# Altium footprint library myComponents.PcbLib: 20 footprints (part 1 of 2)
Each footprint in its own frame and in the unit in brackets; x right, y up, seen from the top. Pads: shape width x height; smd on the part's side, far side on the other; paste and mask are expansions set on the pad; w line width, h text height; cw(c..) or ccw(c..) is an arc to the next point about the centre after c.
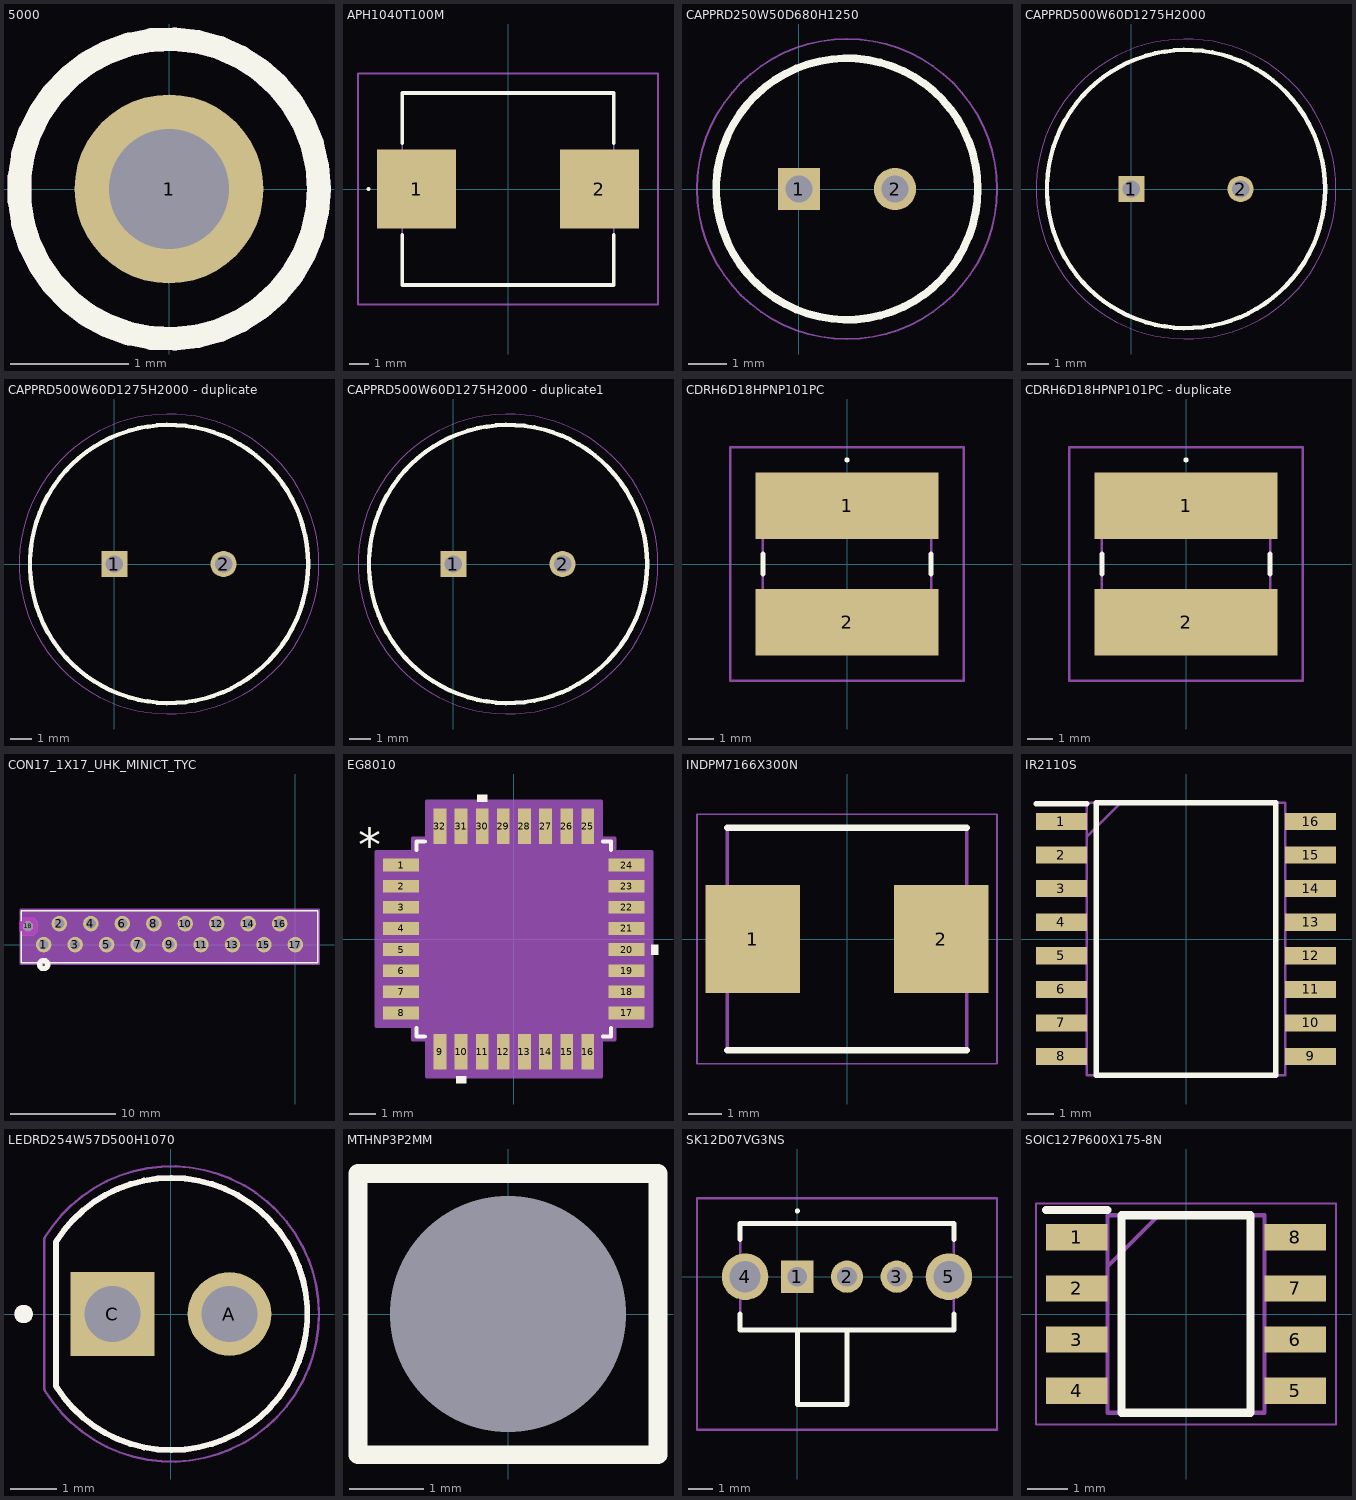
[diagram p0: the footprints below, top view; thin cyan lines are the x and y axes]

## 5000 [mm]
pads (1):
  round 1.6 hole 1.02: 1(0,0)
Top Overlay:
  circle w0.2: c0,0 r1.27
Mechanical 13:
  circle w0.2: c0,0 r1.27
  circle w0.2: c0,0 r1.27
3D body "5000.stp": height 5, standoff -2.62, extent -1.261,-1.27 1.261,1.27

## APH1040T100M [mm]
pads (2):
  rect 4.1x4.1 smd: 1(-4.75,0) 2(4.75,0)
Top Overlay:
  lines w0.1: -7.3,0 ccw(c-7.25,0) -7.2,0 ccw(c-7.25,0) -7.3,0
  lines w0.2: -5.5,-2.4 -5.5,-5 5.5,-5 5.5,-2.4 ; -5.5,2.4 -5.5,5 5.5,5 5.5,2.4
Mechanical 13:
  lines w0.1: -5.5,-5 -5.5,5 5.5,5 5.5,-5 -5.5,-5
Mechanical 15:
  lines w0.1: -7.8,-6 -7.8,6 7.8,6 7.8,-6 -7.8,-6
3D body "APH1040T100M.stp": height 4.1, standoff 0, extent -6.39,-5 6.39,5

## CAPPRD250W50D680H1250 [mm]
pads (2):
  rect 1.1x1.1 hole 0.7: 1(0,0)
  round 1.1 hole 0.7: 2(2.5,0)
Top Overlay:
  circle w0.2: c1.25,0 r3.4
Mechanical 13:
  circle w0.1: c1.25,0 r3.4
Mechanical 15:
  circle w0.05: c1.25,0 r3.9
3D body "MAL203856101E3.stp": height 12.5, standoff -10, extent -2.138,-3.397 4.65,3.397

## CAPPRD500W60D1275H2000 [mm]
pads (2):
  rect 1.2x1.2 hole 0.8: 1(0,0)
  round 1.2 hole 0.8: 2(5,0)
Top Overlay:
  circle w0.2: c2.5,0 r6.375
Mechanical 13:
  circle w0.1: c2.5,0 r6.375
Mechanical 15:
  circle w0.05: c2.5,0 r6.875
3D body "UPW0J222MHD.stp": height 20, standoff -10, extent -3.988,-6.497 9,6.497

## CAPPRD500W60D1275H2000 - duplicate [mm]
pads (2):
  rect 1.2x1.2 hole 0.8: 1(0,0)
  round 1.2 hole 0.8: 2(5,0)
Top Overlay:
  circle w0.2: c2.5,0 r6.375
Mechanical 13:
  circle w0.1: c2.5,0 r6.375
Mechanical 15:
  circle w0.05: c2.5,0 r6.875
3D body "UPW0J222MHD.stp": height 20, standoff -10, extent -3.988,-6.497 9,6.497

## CAPPRD500W60D1275H2000 - duplicate1 [mm]
pads (2):
  rect 1.2x1.2 hole 0.8: 1(0,0)
  round 1.2 hole 0.8: 2(5,0)
Top Overlay:
  circle w0.2: c2.5,0 r6.375
Mechanical 13:
  circle w0.1: c2.5,0 r6.375
Mechanical 15:
  circle w0.05: c2.5,0 r6.875
3D body "UPW0J222MHD.stp": height 20, standoff -10, extent -3.988,-6.497 9,6.497

## CDRH6D18HPNP101PC [mm]
pads (2):
  rect 7.3x2.65 smd: 1(0,2.325) 2(0,-2.325)
Top Overlay:
  lines w0.1: 0,4.1 ccw(c0,4.15) 0,4.2 ; 0,4.1 cw(c0,4.15) 0,4.2 ; 0,4.1 ccw(c0,4.15) 0,4.2
  lines w0.2: -3.35,-0.4 -3.35,0.4 ; 3.35,-0.4 3.35,0.4
Mechanical 13:
  lines w0.1: -3.35,-3.35 3.35,-3.35 3.35,3.35 -3.35,3.35 -3.35,-3.35
Mechanical 15:
  lines w0.1: -4.65,-4.65 4.65,-4.65 4.65,4.65 -4.65,4.65 -4.65,-4.65

## CDRH6D18HPNP101PC - duplicate [mm]
pads (2):
  rect 7.3x2.65 smd: 1(0,2.325) 2(0,-2.325)
Top Overlay:
  lines w0.1: 0,4.1 ccw(c0,4.15) 0,4.2 ; 0,4.1 cw(c0,4.15) 0,4.2 ; 0,4.1 ccw(c0,4.15) 0,4.2
  lines w0.2: -3.35,-0.4 -3.35,0.4 ; 3.35,-0.4 3.35,0.4
Mechanical 13:
  lines w0.1: -3.35,-3.35 -3.35,3.35 3.35,3.35 3.35,-3.35 -3.35,-3.35
Mechanical 15:
  lines w0.1: -4.65,-4.65 -4.65,4.65 4.65,4.65 4.65,-4.65 -4.65,-4.65

## CON17_1X17_UHK_MINICT_TYC [mil]
pads (18):
  round 58 hole 38 paste-99999 mask-29: 1(-944.88,0) 2(-885.83,78.74) 3(-826.77,0) 4(-767.72,78.74) 5(-708.66,0) 6(-649.61,78.74) 7(-590.55,0) 8(-531.5,78.74) 9(-472.44,0) 10(-413.39,78.74) 11(-354.33,0) 12(-295.28,78.74) 13(-236.22,0) 14(-177.17,78.74) 15(-118.11,0) 16(-59.06,78.74) 17(0,0)
  round 38 hole 38 unplated paste-99999 mask+0: 18(-1003.44,69)
Top Overlay:
  circle w20: c-944.88,-75 r15
  lines w6: -1028.44,48.87 -1028.44,-68 83.56,-68 83.56,127 -1028.44,127 -1028.44,89.13
  text ".Designator" at -609.94,-25 h50
Bottom Overlay:
  circle w20: c-944.88,-75 r15
Keep-Out Layer:
  region: -1022.44,35 -1037.44,50 -1037.44,88 -1022.44,103 -984.44,103 -969.44,88 -969.44,50 -984.44,35
Mechanical 13:
  circle w1: c-944.88,10 r7
  lines w1: -1023.44,-63 78.56,-63 78.56,122 -1023.44,122 -1023.44,-63
  text ".Designator" at -609.94,-25 h50
Mechanical 15:
  region: 88.56,132 -1033.44,132 -1033.44,-73 88.56,-73
  lines w6: -1033.44,-73 -1033.44,132 88.56,132 88.56,-73 -1033.44,-73

## EG8010 [mm]
pads (32):
  rect 1.36x0.482 smd paste+0 mask+0: 1(-4.267,2.8) 2(-4.267,2) 3(-4.267,1.2) 4(-4.267,0.4) 5(-4.267,-0.4) 6(-4.267,-1.2) 7(-4.267,-2) 8(-4.267,-2.8) 17(4.267,-2.8) 18(4.267,-2) 19(4.267,-1.2) 20(4.267,-0.4) 21(4.267,0.4) 22(4.267,1.2) 23(4.267,2) 24(4.267,2.8)
  rect 0.482x1.36 smd paste+0 mask+0: 9(-2.8,-4.267) 10(-2,-4.267) 11(-1.2,-4.267) 12(-0.4,-4.267) 13(0.4,-4.267) 14(1.2,-4.267) 15(2,-4.267) 16(2.8,-4.267) 25(2.8,4.267) 26(2,4.267) 27(1.2,4.267) 28(0.4,4.267) 29(-0.4,4.267) 30(-1.2,4.267) 31(-2,4.267) 32(-2.8,4.267)
Top Overlay:
  region: -1.81,-5.201 -2.191,-5.201 -2.191,-5.455 -1.81,-5.455
  region: 5.201,-0.209 5.455,-0.209 5.455,-0.59 5.201,-0.59
  region: -1.01,5.201 -1.391,5.201 -1.391,5.455 -1.01,5.455
  lines w0.152: -3.683,-3.374 -3.683,-3.683 -3.374,-3.683 ; -3.683,3.374 -3.683,3.683 -3.374,3.683 ; 3.374,-3.683 3.683,-3.683 3.683,-3.374 ; 3.374,3.683 3.683,3.683 3.683,3.374
  text "*" at -5.9,2.946 h1.27
  text ".Designator" at -3.492,-0.635 h1.27
Mechanical 13:
  lines w0.025: -3.556,2.286 -2.286,3.556 ; -4.597,-3.016 -4.597,-2.584 -3.556,-2.584 -3.556,-3.016 -4.597,-3.016 ; -4.597,-2.216 -4.597,-1.784 -3.556,-1.784 -3.556,-2.216 -4.597,-2.216 ; -4.597,-1.416 -4.597,-0.984 -3.556,-0.984 -3.556,-1.416 -4.597,-1.416 ; -4.597,-0.616 -4.597,-0.184 -3.556,-0.184 -3.556,-0.616 -4.597,-0.616 ; -4.597,0.184 -4.597,0.616 -3.556,0.616 -3.556,0.184 -4.597,0.184 ; -4.597,0.984 -4.597,1.416 -3.556,1.416 -3.556,0.984 -4.597,0.984 ; -4.597,1.784 -4.597,2.216 -3.556,2.216 -3.556,1.784 -4.597,1.784 ; -4.597,2.584 -4.597,3.016 -3.556,3.016 -3.556,2.584 -4.597,2.584 ; -3.556,-3.556 -3.556,3.556 3.556,3.556 3.556,-3.556 -3.556,-3.556 ; -3.016,-4.597 -3.016,-3.556 -2.584,-3.556 -2.584,-4.597 -3.016,-4.597 ; -3.016,3.556 -2.584,3.556 -2.584,4.597 -3.016,4.597 -3.016,3.556 ; -2.216,-4.597 -2.216,-3.556 -1.784,-3.556 -1.784,-4.597 -2.216,-4.597 ; -2.216,3.556 -1.784,3.556 -1.784,4.597 -2.216,4.597 -2.216,3.556 ; -1.416,-4.597 -1.416,-3.556 -0.984,-3.556 -0.984,-4.597 -1.416,-4.597 ; -1.416,3.556 -0.984,3.556 -0.984,4.597 -1.416,4.597 -1.416,3.556 ; -0.616,-4.597 -0.616,-3.556 -0.184,-3.556 -0.184,-4.597 -0.616,-4.597 ; -0.616,3.556 -0.184,3.556 -0.184,4.597 -0.616,4.597 -0.616,3.556 ; 0.184,-4.597 0.184,-3.556 0.616,-3.556 0.616,-4.597 0.184,-4.597 ; 0.184,3.556 0.616,3.556 0.616,4.597 0.184,4.597 0.184,3.556 ; 0.984,-4.597 0.984,-3.556 1.416,-3.556 1.416,-4.597 0.984,-4.597 ; 0.984,3.556 1.416,3.556 1.416,4.597 0.984,4.597 0.984,3.556 ; 1.784,-4.597 1.784,-3.556 2.216,-3.556 2.216,-4.597 1.784,-4.597 ; 1.784,3.556 2.216,3.556 2.216,4.597 1.784,4.597 1.784,3.556 ; 2.584,-4.597 2.584,-3.556 3.016,-3.556 3.016,-4.597 2.584,-4.597 ; 2.584,3.556 3.016,3.556 3.016,4.597 2.584,4.597 2.584,3.556 ; 3.556,-3.016 3.556,-2.584 4.597,-2.584 4.597,-3.016 3.556,-3.016 ; 3.556,-2.216 3.556,-1.784 4.597,-1.784 4.597,-2.216 3.556,-2.216 ; 3.556,-1.416 3.556,-0.984 4.597,-0.984 4.597,-1.416 3.556,-1.416 ; 3.556,-0.616 3.556,-0.184 4.597,-0.184 4.597,-0.616 3.556,-0.616 ; 3.556,0.184 3.556,0.616 4.597,0.616 4.597,0.184 3.556,0.184 ; 3.556,0.984 3.556,1.416 4.597,1.416 4.597,0.984 3.556,0.984 ; 3.556,1.784 3.556,2.216 4.597,2.216 4.597,1.784 3.556,1.784 ; 3.556,2.584 3.556,3.016 4.597,3.016 4.597,2.584 3.556,2.584
  text ".Designator" at -3.492,-0.635 h1.27
  text "*" at -3.492,2.565 h1.27
Mechanical 15:
  region: -3.295,-3.81 -3.81,-3.81 -3.81,-3.295 -5.201,-3.295 -5.201,3.295 -3.81,3.295 -3.81,3.81 -3.295,3.81 -3.295,5.201 3.295,5.201 3.295,3.81 3.81,3.81 3.81,3.295 5.201,3.295 5.201,-3.295 3.81,-3.295 3.81,-3.81 3.295,-3.81 3.295,-5.201 -3.295,-5.201
  lines w0.152: -5.201,-3.295 -3.81,-3.295 -3.81,-3.81 -3.295,-3.81 -3.295,-5.201 3.295,-5.201 3.295,-3.81 3.81,-3.81 3.81,-3.295 5.201,-3.295 5.201,3.295 3.81,3.295 3.81,3.81 3.295,3.81 3.295,5.201 -3.295,5.201 -3.295,3.81 -3.81,3.81 -3.81,3.295 -5.201,3.295 -5.201,-3.295
3D body "LQFP32_EGM.step": height 1.6, standoff 0, extent -4.597,-4.597 4.597,4.597

## INDPM7166X300N [mm]
pads (2):
  rect 2.8x3.2 smd: 1(-2.8,0) 2(2.8,0)
Top Overlay:
  lines w0.2: -3.55,-3.3 3.55,-3.3 ; -3.55,3.3 3.55,3.3
Mechanical 13:
  lines w0.1: -3.55,-3.3 -3.55,3.3 3.55,3.3 3.55,-3.3 -3.55,-3.3
Mechanical 15:
  lines w0.05: -4.45,-3.7 -4.45,3.7 4.45,3.7 4.45,-3.7 -4.45,-3.7
3D body "SRP6530A-R47M.stp": height 3, standoff 0, extent -3.55,-3.3 3.55,3.3

## IR2110S [mm]
pads (16):
  rect 1.925x0.65 smd: 1(-4.712,4.445) 2(-4.712,3.175) 3(-4.712,1.905) 4(-4.712,0.635) 5(-4.712,-0.635) 6(-4.712,-1.905) 7(-4.712,-3.175) 8(-4.712,-4.445) 9(4.712,-4.445) 10(4.712,-3.175) 11(4.712,-1.905) 12(4.712,-0.635) 13(4.712,0.635) 14(4.712,1.905) 15(4.712,3.175) 16(4.712,4.445)
Top Overlay:
  lines w0.2: -5.675,5.12 -3.75,5.12 ; -3.4,-5.15 -3.4,5.15 3.4,5.15 3.4,-5.15 -3.4,-5.15
Mechanical 15:
  lines w0.1: -3.75,3.88 -2.48,5.15 ; -3.75,-5.15 -3.75,5.15 3.75,5.15 3.75,-5.15 -3.75,-5.15

## LEDRD254W57D500H1070 [mm]
height 10.7
pads (2):
  round 1.815 hole 1.21: A(1.27,0)
  rect 1.815x1.815 / inner round 1.815 / far side rect 1.815x1.815 hole 1.21: C(-1.27,0)
Top Overlay:
  circle w0.2: c-3.2,0 r0.1
  lines w0.127: -2.5,-1.566 ccw(c0.006,0) -2.5,1.566 -2.5,-1.566
Mechanical 13:
  circle w0.2: c-3.2,0 r0.1
  lines w0.127: -2.5,-1.566 ccw(c0.006,0) -2.5,1.566 -2.5,-1.566
Mechanical 15:
  lines w0.05: -2.75,-1.64 -2.75,1.64 ; -2.743,-1.652 ccw(c0.007,0) -2.743,1.652
3D body "step_temp.STEP": height 9.1, standoff -17.8, extent -2.6,-2.95 2.95,2.95

## MTHNP3P2MM [mm] "mountinh hole non plated 3.2mm"
pads (1):
  round 1 hole 3.2: ""(0,0)
Top Overlay:
  lines w0.254: -2.032,-1.905 2.032,-1.905 2.032,1.905 -2.032,1.905 -2.032,0.254 -2.032,-1.905

## SK12D07VG3NS [mm]
pads (5):
  rect 1.3x1.3 hole 0.8: 1(0,0)
  round 1.3 hole 0.8: 2(2,0) 3(4,0)
  round 1.875 hole 1.25: 4(-2.1,0) 5(6.1,0)
Top Overlay:
  lines w0.1: 0,2.6 ccw(c0,2.65) 0,2.7 ccw(c0,2.65) 0,2.6
  lines w0.2: -2.3,-1.5 -2.3,-2.15 6.3,-2.15 6.3,-1.5 ; -2.3,1.5 -2.3,2.15 6.3,2.15 6.3,1.5 ; 0,-2.15 0,-5.15 2,-5.15 2,-2.15
Mechanical 13:
  lines w0.1: 0,-2.15 0,-5.15 2,-5.15 2,-2.15 ; -2.3,-2.15 -2.3,2.15 6.3,2.15 6.3,-2.15 -2.3,-2.15
Mechanical 15:
  lines w0.1: -4.037,-6.15 -4.037,3.15 8.037,3.15 8.037,-6.15 -4.037,-6.15
3D body "SK12D07VG3NS.stp": height 4.66, standoff -3.37, extent -2.3,-5.15 6.3,2.15

## SOIC127P600X175-8N [mm]
pads (8):
  rect 1.528x0.65 smd: 1(-2.711,1.905) 2(-2.711,0.635) 3(-2.711,-0.635) 4(-2.711,-1.905) 5(2.711,-1.905) 6(2.711,-0.635) 7(2.711,0.635) 8(2.711,1.905)
Top Overlay:
  lines w0.2: -3.475,2.58 -1.948,2.58 ; -1.598,-2.452 -1.598,2.452 1.598,2.452 1.598,-2.452 -1.598,-2.452
Mechanical 15:
  lines w0.1: -1.948,1.182 -0.678,2.452 ; -1.948,-2.452 -1.948,2.452 1.948,2.452 1.948,-2.452 -1.948,-2.452
Mechanical 20:
  lines w0.05: -3.725,-2.75 -3.725,2.75 3.725,2.75 3.725,-2.75 -3.725,-2.75